# EAGLE library part VL805 (library pimoroni-ics)
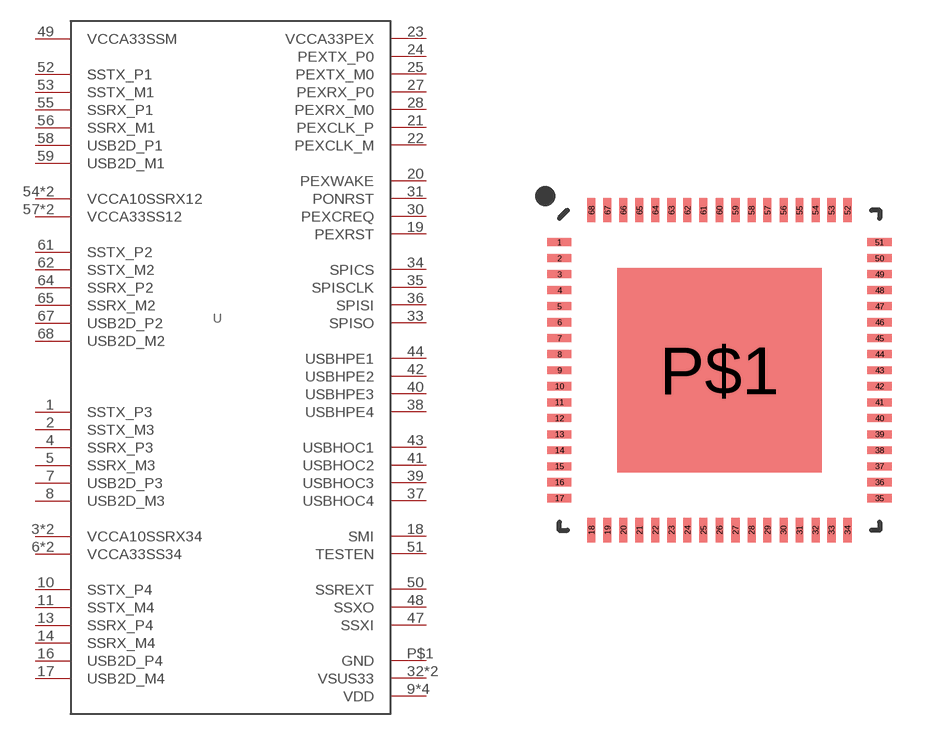
[diagram p177: symbol with the pads of QFN-68; footprint QFN-68]

Designator prefix -

## VL805  [QFN-68]
1  SSTX_P3
2  SSTX_M3
3  VCCA10SSRX34
4  SSRX_P3
5  SSRX_M3
6  VCCA33SS34
7  USB2D_P3
8  USB2D_M3
9  VDD
10  SSTX_P4
11  SSTX_M4
12  VCCA10SSRX34
13  SSRX_P4
14  SSRX_M4
15  VCCA33SS34
16  USB2D_P4
17  USB2D_M4
18  SMI
19  PEXRST
20  PEXWAKE
21  PEXCLK_P
22  PEXCLK_M
23  VCCA33PEX
24  PEXTX_P0
25  PEXTX_M0
27  PEXRX_P0
28  PEXRX_M0
29  VDD
30  PEXCREQ
31  PONRST
32  VSUS33
33  SPISO
34  SPICS
35  SPISCLK
36  SPISI
37  USBHOC4
38  USBHPE4
39  USBHOC3
40  USBHPE3
41  USBHOC2
42  USBHPE2
43  USBHOC1
44  USBHPE1
45  VDD
46  VSUS33
47  SSXI
48  SSXO
49  VCCA33SSM
50  SSREXT
51  TESTEN
52  SSTX_P1
53  SSTX_M1
54  VCCA10SSRX12
55  SSRX_P1
56  SSRX_M1
57  VCCA33SS12
58  USB2D_P1
59  USB2D_M1
60  VDD
61  SSTX_P2
62  SSTX_M2
63  VCCA10SSRX12
64  SSRX_P2
65  SSRX_M2
66  VCCA33SS12
67  USB2D_P2
68  USB2D_M2
P$1  GND

## Footprint QFN-68 (pad centres in mm)
smd 0.6 x 0.2: 1 -4,3.2; 2 -4,2.8; 3 -4,2.4; 4 -4,2; 5 -4,1.6; 6 -4,1.2; 7 -4,0.8; 8 -4,0.4; 9 -4,0; 10 -4,-0.4; 11 -4,-0.8; 12 -4,-1.2; 13 -4,-1.6; 14 -4,-2; 15 -4,-2.4; 16 -4,-2.8; 17 -4,-3.2; 35 4,-3.2; 36 4,-2.8; 37 4,-2.4; 38 4,-2; 39 4,-1.6; 40 4,-1.2; 41 4,-0.8; 42 4,-0.4; 43 4,0; 44 4,0.4; 45 4,0.8; 46 4,1.2; 47 4,1.6; 48 4,2; 49 4,2.4; 50 4,2.8; 51 4,3.2
smd 0.2 x 0.6: 18 -3.2,-4; 19 -2.8,-4; 20 -2.4,-4; 21 -2,-4; 22 -1.6,-4; 23 -1.2,-4; 24 -0.8,-4; 25 -0.4,-4; 26 0,-4; 27 0.4,-4; 28 0.8,-4; 29 1.2,-4; 30 1.6,-4; 31 2,-4; 32 2.4,-4; 33 2.8,-4; 34 3.2,-4; 52 3.2,4; 53 2.8,4; 54 2.4,4; 55 2,4; 56 1.6,4; 57 1.2,4; 58 0.8,4; 59 0.4,4; 60 0,4; 61 -0.4,4; 62 -0.8,4; 63 -1.2,4; 64 -1.6,4; 65 -2,4; 66 -2.4,4; 67 -2.8,4; 68 -3.2,4
smd 5.1 x 5.1: P$1 0,0